# Altium schematic symbol library Led_Lite-On_LTST-C193KGKT-5A_Red.SchLib: 1 symbol
Pins are listed as number, name and electrical type; pins without a type are passive.

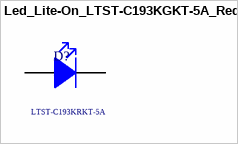
[diagram p0: symbol Led_Lite-On_LTST-C193KGKT-5A_Red]

## Led_Lite-On_LTST-C193KGKT-5A_Red
designator D?, comment LTST-C193KRKT-5A
Standard LEDs - SMD Red 470nm 28mcd 20mA; Supplier 1: Mouser; Supplier Part Number 1: 859-LTSTC193KRKT5A; Series: LTST-C193KRKT-5A
footprint Led_Lite-On_LTST-C193KGKT-5A_Red
pins: 1 K, 2 A